# Altium footprint library Footprint.PcbLib: 97 footprints (part 4 of 7)
Each footprint in its own frame and in the unit in brackets; x right, y up, seen from the top. Pads: shape width x height; smd on the part's side, far side on the other; paste and mask are expansions set on the pad; w line width, h text height; cw(c..) or ccw(c..) is an arc to the next point about the centre after c.
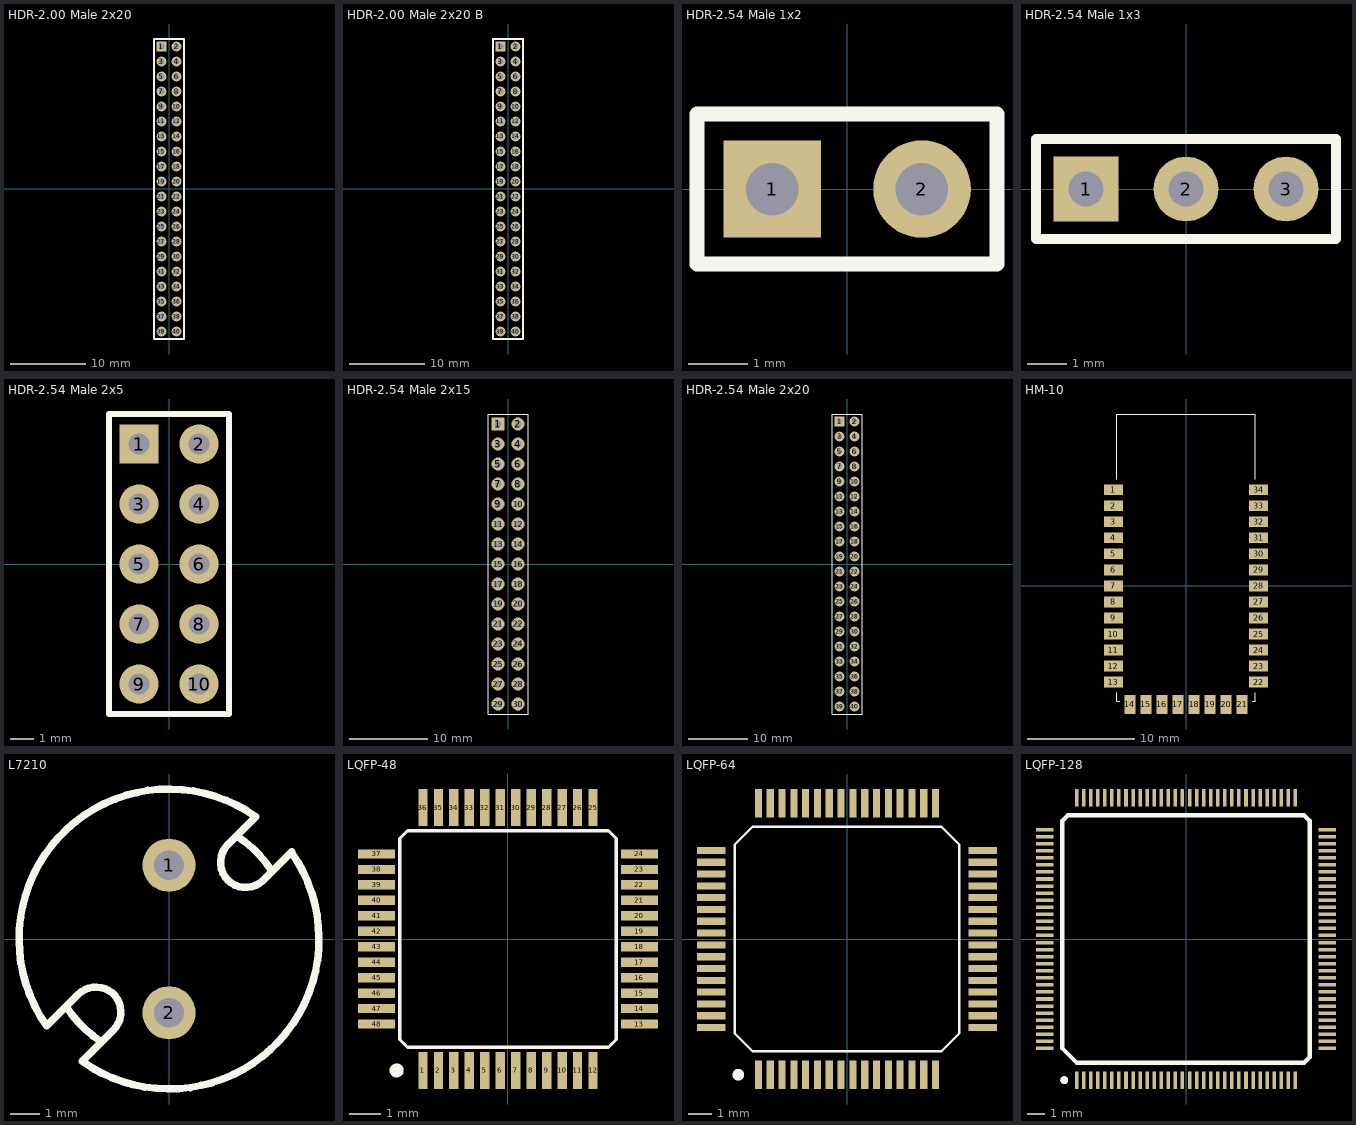
[diagram p3: the footprints below, top view; thin cyan lines are the x and y axes]

## HDR-2.00 Male 2x20 [mm]
pads (40):
  rect 1.3x1.3 hole 0.8: 1(-1,19)
  round 1.3 hole 0.8: 2(1,19) 3(-1,17) 4(1,17) 5(-1,15) 6(1,15) 7(-1,13) 8(1,13) 9(-1,11) 10(1,11) 11(-1,9) 12(1,9) 13(-1,7) 14(1,7) 15(-1,5) 16(1,5) 17(-1,3) 18(1,3) 19(-1,1) 20(1,1) 21(-1,-1) 22(1,-1) 23(-1,-3) 24(1,-3) 25(-1,-5) 26(1,-5) 27(-1,-7) 28(1,-7) 29(-1,-9) 30(1,-9) 31(-1,-11) 32(1,-11) 33(-1,-13) 34(1,-13) 35(-1,-15) 36(1,-15) 37(-1,-17) 38(1,-17) 39(-1,-19) 40(1,-19)
Top Overlay:
  lines w0.254: -2,-20 2,-20 2,-10 2,0 2,10 2,20 -2,20 -2,10 -2,0 -2,-10 -2,-20
3D body: height 2, standoff 0.25, extent -2,-20 2,-18
3D body: height 2, standoff 0.25, extent -2,-18 2,-16
3D body: height 2, standoff 0.25, extent -2,-16 2,-14
3D body: height 2, standoff 0.25, extent -2,-14 2,-12
3D body: height 2, standoff 0.25, extent -2,-12 2,-10
3D body: height 0.25, standoff 0, extent 1.5,-12 2,-10
3D body: height 0.25, standoff 0, extent 1.5,-14 2,-12
3D body: height 0.25, standoff 0, extent 1.5,-16 2,-14
3D body: height 0.25, standoff 0, extent 1.5,-18 2,-16
3D body: height 0.25, standoff 0, extent 1.5,-20 2,-18
3D body: height 0.25, standoff 0, extent -2,-20 -1.5,-18
3D body: height 0.25, standoff 0, extent -2,-18 -1.5,-16
3D body: height 0.25, standoff 0, extent -2,-16 -1.5,-14
3D body: height 0.25, standoff 0, extent -2,-14 -1.5,-12
3D body: height 0.25, standoff 0, extent -2,-12 -1.5,-10
3D body: height 0.25, standoff 0, extent 0,-20 0.5,-10
3D body: height 6, standoff -2.8, extent 0.75,-19.24 1.25,-18.74
3D body: height 6, standoff -2.8, extent -1.25,-19.24 -0.75,-18.74
3D body: height 6, standoff -2.8, extent 0.75,-17.24 1.25,-16.74
3D body: height 6, standoff -2.8, extent -1.25,-17.24 -0.75,-16.74
3D body: height 6, standoff -2.8, extent 0.75,-15.24 1.25,-14.74
3D body: height 6, standoff -2.8, extent -1.25,-15.24 -0.75,-14.74
3D body: height 6, standoff -2.8, extent -1.25,-11.24 -0.75,-10.74
3D body: height 6, standoff -2.8, extent -1.25,-13.24 -0.75,-12.74
3D body: height 0.25, standoff 0, extent -0.5,-20 0,-10
3D body: height 6, standoff -2.8, extent 0.75,-13.24 1.25,-12.74
3D body: height 6, standoff -2.8, extent 0.75,-11.24 1.25,-10.74
3D body: height 2, standoff 0.25, extent -2,-10 2,-8
3D body: height 2, standoff 0.25, extent -2,-8 2,-6
3D body: height 2, standoff 0.25, extent -2,-6 2,-4
3D body: height 2, standoff 0.25, extent -2,-4 2,-2
3D body: height 2, standoff 0.25, extent -2,-2 2,0
3D body: height 0.25, standoff 0, extent 1.5,-2 2,0
3D body: height 0.25, standoff 0, extent 1.5,-4 2,-2
3D body: height 0.25, standoff 0, extent 1.5,-6 2,-4
3D body: height 0.25, standoff 0, extent 1.5,-8 2,-6
3D body: height 0.25, standoff 0, extent 1.5,-10 2,-8
3D body: height 0.25, standoff 0, extent -2,-10 -1.5,-8
3D body: height 0.25, standoff 0, extent -2,-8 -1.5,-6
3D body: height 0.25, standoff 0, extent -2,-6 -1.5,-4
3D body: height 0.25, standoff 0, extent -2,-4 -1.5,-2
3D body: height 0.25, standoff 0, extent -2,-2 -1.5,0
3D body: height 0.25, standoff 0, extent 0,-10 0.5,0
3D body: height 6, standoff -2.8, extent 0.75,-9.24 1.25,-8.74
3D body: height 6, standoff -2.8, extent -1.25,-9.24 -0.75,-8.74
3D body: height 6, standoff -2.8, extent 0.75,-7.24 1.25,-6.74
3D body: height 6, standoff -2.8, extent -1.25,-7.24 -0.75,-6.74
3D body: height 6, standoff -2.8, extent 0.75,-5.24 1.25,-4.74
3D body: height 6, standoff -2.8, extent -1.25,-5.24 -0.75,-4.74
3D body: height 6, standoff -2.8, extent -1.25,-1.24 -0.75,-0.74
3D body: height 6, standoff -2.8, extent -1.25,-3.24 -0.75,-2.74
3D body: height 0.25, standoff 0, extent -0.5,-10 0,0
3D body: height 6, standoff -2.8, extent 0.75,-3.24 1.25,-2.74
3D body: height 6, standoff -2.8, extent 0.75,-1.24 1.25,-0.74
3D body: height 6, standoff -2.8, extent 0.75,18.76 1.25,19.26
3D body: height 6, standoff -2.8, extent 0.75,16.76 1.25,17.26
3D body: height 0.25, standoff 0, extent -0.5,10 0,20
3D body: height 6, standoff -2.8, extent -1.25,16.76 -0.75,17.26
3D body: height 6, standoff -2.8, extent -1.25,18.76 -0.75,19.26
3D body: height 6, standoff -2.8, extent -1.25,14.76 -0.75,15.26
3D body: height 6, standoff -2.8, extent 0.75,14.76 1.25,15.26
3D body: height 6, standoff -2.8, extent -1.25,12.76 -0.75,13.26
3D body: height 6, standoff -2.8, extent 0.75,12.76 1.25,13.26
3D body: height 6, standoff -2.8, extent -1.25,10.76 -0.75,11.26
3D body: height 6, standoff -2.8, extent 0.75,10.76 1.25,11.26
3D body: height 0.25, standoff 0, extent 0,10 0.5,20
3D body: height 0.25, standoff 0, extent -2,18 -1.5,20
3D body: height 0.25, standoff 0, extent -2,16 -1.5,18
3D body: height 0.25, standoff 0, extent -2,14 -1.5,16
3D body: height 0.25, standoff 0, extent -2,12 -1.5,14
3D body: height 0.25, standoff 0, extent -2,10 -1.5,12
3D body: height 0.25, standoff 0, extent 1.5,10 2,12
3D body: height 0.25, standoff 0, extent 1.5,12 2,14
3D body: height 0.25, standoff 0, extent 1.5,14 2,16
3D body: height 0.25, standoff 0, extent 1.5,16 2,18
3D body: height 0.25, standoff 0, extent 1.5,18 2,20
3D body: height 2, standoff 0.25, extent -2,18 2,20
3D body: height 2, standoff 0.25, extent -2,16 2,18
3D body: height 2, standoff 0.25, extent -2,14 2,16
3D body: height 2, standoff 0.25, extent -2,12 2,14
3D body: height 2, standoff 0.25, extent -2,10 2,12
3D body: height 6, standoff -2.8, extent 0.75,8.76 1.25,9.26
3D body: height 6, standoff -2.8, extent 0.75,6.76 1.25,7.26
3D body: height 0.25, standoff 0, extent -0.5,0 0,10
3D body: height 6, standoff -2.8, extent -1.25,6.76 -0.75,7.26
3D body: height 6, standoff -2.8, extent -1.25,8.76 -0.75,9.26
3D body: height 6, standoff -2.8, extent -1.25,4.76 -0.75,5.26
3D body: height 6, standoff -2.8, extent 0.75,4.76 1.25,5.26
3D body: height 6, standoff -2.8, extent -1.25,2.76 -0.75,3.26
3D body: height 6, standoff -2.8, extent 0.75,2.76 1.25,3.26
3D body: height 6, standoff -2.8, extent -1.25,0.76 -0.75,1.26
3D body: height 6, standoff -2.8, extent 0.75,0.76 1.25,1.26
3D body: height 0.25, standoff 0, extent 0,0 0.5,10
3D body: height 0.25, standoff 0, extent -2,8 -1.5,10
3D body: height 0.25, standoff 0, extent -2,6 -1.5,8
3D body: height 0.25, standoff 0, extent -2,4 -1.5,6
3D body: height 0.25, standoff 0, extent -2,2 -1.5,4
3D body: height 0.25, standoff 0, extent -2,0 -1.5,2
3D body: height 0.25, standoff 0, extent 1.5,0 2,2
3D body: height 0.25, standoff 0, extent 1.5,2 2,4
3D body: height 0.25, standoff 0, extent 1.5,4 2,6
3D body: height 0.25, standoff 0, extent 1.5,6 2,8
3D body: height 0.25, standoff 0, extent 1.5,8 2,10
3D body: height 2, standoff 0.25, extent -2,8 2,10
3D body: height 2, standoff 0.25, extent -2,6 2,8
3D body: height 2, standoff 0.25, extent -2,4 2,6
3D body: height 2, standoff 0.25, extent -2,2 2,4
3D body: height 2, standoff 0.25, extent -2,0 2,2

## HDR-2.00 Male 2x20 B [mm]
pads (40):
  rect 1.3x1.3 hole 0.8: 1(-1,19)
  round 1.3 hole 0.8: 2(1,19) 3(-1,17) 4(1,17) 5(-1,15) 6(1,15) 7(-1,13) 8(1,13) 9(-1,11) 10(1,11) 11(-1,9) 12(1,9) 13(-1,7) 14(1,7) 15(-1,5) 16(1,5) 17(-1,3) 18(1,3) 19(-1,1) 20(1,1) 21(-1,-1) 22(1,-1) 23(-1,-3) 24(1,-3) 25(-1,-5) 26(1,-5) 27(-1,-7) 28(1,-7) 29(-1,-9) 30(1,-9) 31(-1,-11) 32(1,-11) 33(-1,-13) 34(1,-13) 35(-1,-15) 36(1,-15) 37(-1,-17) 38(1,-17) 39(-1,-19) 40(1,-19)
Top Overlay:
  lines w0.254: -2,-20 2,-20 2,-10 2,0 2,10 2,20 -2,20 -2,10 -2,0 -2,-10 -2,-20
3D body: height 2, standoff 0.25, extent -2,-20 2,-18
3D body: height 2, standoff 0.25, extent -2,-18 2,-16
3D body: height 2, standoff 0.25, extent -2,-16 2,-14
3D body: height 2, standoff 0.25, extent -2,-14 2,-12
3D body: height 2, standoff 0.25, extent -2,-12 2,-10
3D body: height 0.25, standoff 0, extent 1.5,-12 2,-10
3D body: height 0.25, standoff 0, extent 1.5,-14 2,-12
3D body: height 0.25, standoff 0, extent 1.5,-16 2,-14
3D body: height 0.25, standoff 0, extent 1.5,-18 2,-16
3D body: height 0.25, standoff 0, extent 1.5,-20 2,-18
3D body: height 0.25, standoff 0, extent -2,-20 -1.5,-18
3D body: height 0.25, standoff 0, extent -2,-18 -1.5,-16
3D body: height 0.25, standoff 0, extent -2,-16 -1.5,-14
3D body: height 0.25, standoff 0, extent -2,-14 -1.5,-12
3D body: height 0.25, standoff 0, extent -2,-12 -1.5,-10
3D body: height 0.25, standoff 0, extent 0,-20 0.5,-10
3D body: height 6, standoff -2.8, extent 0.75,-19.24 1.25,-18.74
3D body: height 6, standoff -2.8, extent -1.25,-19.24 -0.75,-18.74
3D body: height 6, standoff -2.8, extent 0.75,-17.24 1.25,-16.74
3D body: height 6, standoff -2.8, extent -1.25,-17.24 -0.75,-16.74
3D body: height 6, standoff -2.8, extent 0.75,-15.24 1.25,-14.74
3D body: height 6, standoff -2.8, extent -1.25,-15.24 -0.75,-14.74
3D body: height 6, standoff -2.8, extent -1.25,-11.24 -0.75,-10.74
3D body: height 6, standoff -2.8, extent -1.25,-13.24 -0.75,-12.74
3D body: height 0.25, standoff 0, extent -0.5,-20 0,-10
3D body: height 6, standoff -2.8, extent 0.75,-13.24 1.25,-12.74
3D body: height 6, standoff -2.8, extent 0.75,-11.24 1.25,-10.74
3D body: height 2, standoff 0.25, extent -2,-10 2,-8
3D body: height 2, standoff 0.25, extent -2,-8 2,-6
3D body: height 2, standoff 0.25, extent -2,-6 2,-4
3D body: height 2, standoff 0.25, extent -2,-4 2,-2
3D body: height 2, standoff 0.25, extent -2,-2 2,0
3D body: height 0.25, standoff 0, extent 1.5,-2 2,0
3D body: height 0.25, standoff 0, extent 1.5,-4 2,-2
3D body: height 0.25, standoff 0, extent 1.5,-6 2,-4
3D body: height 0.25, standoff 0, extent 1.5,-8 2,-6
3D body: height 0.25, standoff 0, extent 1.5,-10 2,-8
3D body: height 0.25, standoff 0, extent -2,-10 -1.5,-8
3D body: height 0.25, standoff 0, extent -2,-8 -1.5,-6
3D body: height 0.25, standoff 0, extent -2,-6 -1.5,-4
3D body: height 0.25, standoff 0, extent -2,-4 -1.5,-2
3D body: height 0.25, standoff 0, extent -2,-2 -1.5,0
3D body: height 0.25, standoff 0, extent 0,-10 0.5,0
3D body: height 6, standoff -2.8, extent 0.75,-9.24 1.25,-8.74
3D body: height 6, standoff -2.8, extent -1.25,-9.24 -0.75,-8.74
3D body: height 6, standoff -2.8, extent 0.75,-7.24 1.25,-6.74
3D body: height 6, standoff -2.8, extent -1.25,-7.24 -0.75,-6.74
3D body: height 6, standoff -2.8, extent 0.75,-5.24 1.25,-4.74
3D body: height 6, standoff -2.8, extent -1.25,-5.24 -0.75,-4.74
3D body: height 6, standoff -2.8, extent -1.25,-1.24 -0.75,-0.74
3D body: height 6, standoff -2.8, extent -1.25,-3.24 -0.75,-2.74
3D body: height 0.25, standoff 0, extent -0.5,-10 0,0
3D body: height 6, standoff -2.8, extent 0.75,-3.24 1.25,-2.74
3D body: height 6, standoff -2.8, extent 0.75,-1.24 1.25,-0.74
3D body: height 6, standoff -2.8, extent 0.75,18.76 1.25,19.26
3D body: height 6, standoff -2.8, extent 0.75,16.76 1.25,17.26
3D body: height 0.25, standoff 0, extent -0.5,10 0,20
3D body: height 6, standoff -2.8, extent -1.25,16.76 -0.75,17.26
3D body: height 6, standoff -2.8, extent -1.25,18.76 -0.75,19.26
3D body: height 6, standoff -2.8, extent -1.25,14.76 -0.75,15.26
3D body: height 6, standoff -2.8, extent 0.75,14.76 1.25,15.26
3D body: height 6, standoff -2.8, extent -1.25,12.76 -0.75,13.26
3D body: height 6, standoff -2.8, extent 0.75,12.76 1.25,13.26
3D body: height 6, standoff -2.8, extent -1.25,10.76 -0.75,11.26
3D body: height 6, standoff -2.8, extent 0.75,10.76 1.25,11.26
3D body: height 0.25, standoff 0, extent 0,10 0.5,20
3D body: height 0.25, standoff 0, extent -2,18 -1.5,20
3D body: height 0.25, standoff 0, extent -2,16 -1.5,18
3D body: height 0.25, standoff 0, extent -2,14 -1.5,16
3D body: height 0.25, standoff 0, extent -2,12 -1.5,14
3D body: height 0.25, standoff 0, extent -2,10 -1.5,12
3D body: height 0.25, standoff 0, extent 1.5,10 2,12
3D body: height 0.25, standoff 0, extent 1.5,12 2,14
3D body: height 0.25, standoff 0, extent 1.5,14 2,16
3D body: height 0.25, standoff 0, extent 1.5,16 2,18
3D body: height 0.25, standoff 0, extent 1.5,18 2,20
3D body: height 2, standoff 0.25, extent -2,18 2,20
3D body: height 2, standoff 0.25, extent -2,16 2,18
3D body: height 2, standoff 0.25, extent -2,14 2,16
3D body: height 2, standoff 0.25, extent -2,12 2,14
3D body: height 2, standoff 0.25, extent -2,10 2,12
3D body: height 6, standoff -2.8, extent 0.75,8.76 1.25,9.26
3D body: height 6, standoff -2.8, extent 0.75,6.76 1.25,7.26
3D body: height 0.25, standoff 0, extent -0.5,0 0,10
3D body: height 6, standoff -2.8, extent -1.25,6.76 -0.75,7.26
3D body: height 6, standoff -2.8, extent -1.25,8.76 -0.75,9.26
3D body: height 6, standoff -2.8, extent -1.25,4.76 -0.75,5.26
3D body: height 6, standoff -2.8, extent 0.75,4.76 1.25,5.26
3D body: height 6, standoff -2.8, extent -1.25,2.76 -0.75,3.26
3D body: height 6, standoff -2.8, extent 0.75,2.76 1.25,3.26
3D body: height 6, standoff -2.8, extent -1.25,0.76 -0.75,1.26
3D body: height 6, standoff -2.8, extent 0.75,0.76 1.25,1.26
3D body: height 0.25, standoff 0, extent 0,0 0.5,10
3D body: height 0.25, standoff 0, extent -2,8 -1.5,10
3D body: height 0.25, standoff 0, extent -2,6 -1.5,8
3D body: height 0.25, standoff 0, extent -2,4 -1.5,6
3D body: height 0.25, standoff 0, extent -2,2 -1.5,4
3D body: height 0.25, standoff 0, extent -2,0 -1.5,2
3D body: height 0.25, standoff 0, extent 1.5,0 2,2
3D body: height 0.25, standoff 0, extent 1.5,2 2,4
3D body: height 0.25, standoff 0, extent 1.5,4 2,6
3D body: height 0.25, standoff 0, extent 1.5,6 2,8
3D body: height 0.25, standoff 0, extent 1.5,8 2,10
3D body: height 2, standoff 0.25, extent -2,8 2,10
3D body: height 2, standoff 0.25, extent -2,6 2,8
3D body: height 2, standoff 0.25, extent -2,4 2,6
3D body: height 2, standoff 0.25, extent -2,2 2,4
3D body: height 2, standoff 0.25, extent -2,0 2,2

## HDR-2.54 Male 1x2 [mil]
pads (2):
  rect 65x65 hole 35: 1(-50,0)
  round 65 hole 35: 2(50,0)
Top Overlay:
  lines w10: -100,-50 -100,50 100,50 100,-50 -100,-50

## HDR-2.54 Male 1x3 [mil]
pads (3):
  rect 65x65 hole 35: 1(-100,0)
  round 65 hole 35: 2(0,0) 3(100,0)
Top Overlay:
  lines w10: -150,-50 -150,50 150,50 150,-50 -150,-50

## HDR-2.54 Male 2x5 [mil]
pads (10):
  rect 65x65 hole 35: 1(-50,200)
  round 65 hole 35: 2(50,200) 3(-50,100) 4(50,100) 5(-50,0) 6(50,0) 7(-50,-100) 8(50,-100) 9(-50,-200) 10(50,-200)
Top Overlay:
  lines w10: -100,-250 -100,250 100,250 100,-250 -100,-250
3D body: height 19.68, standoff 0, extent -100,150 -78.74,250
3D body: height 19.68, standoff 0, extent 78.74,150 100,250
3D body: height 98.43, standoff 19.68, extent -100,150 100,200
3D body: height 98.43, standoff 19.68, extent -100,200 100,250
3D body: height 336.22, standoff -118.11, extent 37.4,187.4 62.6,212.6
3D body: height 336.22, standoff -118.11, extent -62.6,187.4 -37.4,212.6
3D body: height 19.68, standoff 0, extent -100,50 -78.74,150
3D body: height 19.68, standoff 0, extent 78.74,50 100,150
3D body: height 98.43, standoff 19.68, extent -100,50 100,100
3D body: height 98.43, standoff 19.68, extent -100,100 100,150
3D body: height 336.22, standoff -118.11, extent 37.4,87.4 62.6,112.6
3D body: height 336.22, standoff -118.11, extent -62.6,87.4 -37.4,112.6
3D body: height 19.68, standoff 0, extent -100,-50 -78.74,50
3D body: height 19.68, standoff 0, extent 78.74,-50 100,50
3D body: height 98.43, standoff 19.68, extent -100,-50 100,0
3D body: height 98.43, standoff 19.68, extent -100,0 100,50
3D body: height 336.22, standoff -118.11, extent 37.4,-12.6 62.6,12.6
3D body: height 336.22, standoff -118.11, extent -62.6,-12.6 -37.4,12.6
3D body: height 19.68, standoff 0, extent -100,-150 -78.74,-50
3D body: height 19.68, standoff 0, extent 78.74,-150 100,-50
3D body: height 98.43, standoff 19.68, extent -100,-150 100,-100
3D body: height 98.43, standoff 19.68, extent -100,-100 100,-50
3D body: height 336.22, standoff -118.11, extent 37.4,-112.6 62.6,-87.4
3D body: height 336.22, standoff -118.11, extent -62.6,-112.6 -37.4,-87.4
3D body: height 19.68, standoff 0, extent -100,-250 -78.74,-150
3D body: height 19.68, standoff 0, extent 78.74,-250 100,-150
3D body: height 98.43, standoff 19.68, extent -100,-250 100,-200
3D body: height 98.43, standoff 19.68, extent -100,-200 100,-150
3D body: height 336.22, standoff -118.11, extent 37.4,-212.6 62.6,-187.4
3D body: height 336.22, standoff -118.11, extent -62.6,-212.6 -37.4,-187.4

## HDR-2.54 Male 2x15 [mil]
pads (30):
  rect 65x65 hole 35: 1(-50,700)
  round 65 hole 35: 2(50,700) 3(-50,600) 4(50,600) 5(-50,500) 6(50,500) 7(-50,400) 8(50,400) 9(-50,300) 10(50,300) 11(-50,200) 12(50,200) 13(-50,100) 14(50,100) 15(-50,0) 16(50,0) 17(-50,-100) 18(50,-100) 19(-50,-200) 20(50,-200) 21(-50,-300) 22(50,-300) 23(-50,-400) 24(50,-400) 25(-50,-500) 26(50,-500) 27(-50,-600) 28(50,-600) 29(-50,-700) 30(50,-700)
Top Overlay:
  lines w5: -100,-750 100,-750 100,750 -100,750 -100,-750
3D body: height 98.43, standoff 19.68, extent -100,700 100,750
3D body: height 98.43, standoff 19.68, extent -100,650 100,700
3D body: height 19.68, standoff 0, extent -100,650 -78.74,750
3D body: height 19.68, standoff 0, extent 78.74,650 100,750
3D body: height 19.68, standoff 0, extent -100,550 -78.74,650
3D body: height 19.68, standoff 0, extent -100,450 -78.74,550
3D body: height 19.68, standoff 0, extent -100,350 -78.74,450
3D body: height 19.68, standoff 0, extent -100,250 -78.74,350
3D body: height 19.68, standoff 0, extent -100,-150 -78.74,-50
3D body: height 19.68, standoff 0, extent -100,-50 -78.74,50
3D body: height 19.68, standoff 0, extent -100,50 -78.74,150
3D body: height 19.68, standoff 0, extent -100,150 -78.74,250
3D body: height 19.68, standoff 0, extent -100,-550 -78.74,-450
3D body: height 19.68, standoff 0, extent -100,-450 -78.74,-350
3D body: height 19.68, standoff 0, extent -100,-350 -78.74,-250
3D body: height 19.68, standoff 0, extent -100,-250 -78.74,-150
3D body: height 19.68, standoff 0, extent -100,-750 -78.74,-650
3D body: height 19.68, standoff 0, extent -100,-650 -78.74,-550
3D body: height 19.68, standoff 0, extent 78.74,550 100,650
3D body: height 19.68, standoff 0, extent 78.74,450 100,550
3D body: height 19.68, standoff 0, extent 78.74,350 100,450
3D body: height 19.68, standoff 0, extent 78.74,250 100,350
3D body: height 19.68, standoff 0, extent 78.74,150 100,250
3D body: height 19.68, standoff 0, extent 78.74,50 100,150
3D body: height 19.68, standoff 0, extent 78.74,-50 100,50
3D body: height 19.68, standoff 0, extent 78.74,-150 100,-50
3D body: height 19.68, standoff 0, extent 78.74,-250 100,-150
3D body: height 19.68, standoff 0, extent 78.74,-350 100,-250
3D body: height 19.68, standoff 0, extent 78.74,-450 100,-350
3D body: height 19.68, standoff 0, extent 78.74,-550 100,-450
3D body: height 19.68, standoff 0, extent 78.74,-650 100,-550
3D body: height 19.68, standoff 0, extent 78.74,-750 100,-650
3D body: height 98.43, standoff 19.68, extent -100,550 100,600
3D body: height 98.43, standoff 19.68, extent -100,600 100,650
3D body: height 98.43, standoff 19.68, extent -100,400 100,450
3D body: height 98.43, standoff 19.68, extent -100,450 100,500
3D body: height 98.43, standoff 19.68, extent -100,300 100,350
3D body: height 98.43, standoff 19.68, extent -100,350 100,400
3D body: height 98.43, standoff 19.68, extent -100,200 100,250
3D body: height 98.43, standoff 19.68, extent -100,250 100,300
3D body: height 98.43, standoff 19.68, extent -100,100 100,150
3D body: height 98.43, standoff 19.68, extent -100,150 100,200
3D body: height 98.43, standoff 19.68, extent -100,0 100,50
3D body: height 98.43, standoff 19.68, extent -100,50 100,100
3D body: height 98.43, standoff 19.68, extent -100,-100 100,-50
3D body: height 98.43, standoff 19.68, extent -100,-50 100,0
3D body: height 98.43, standoff 19.68, extent -100,-200 100,-150
3D body: height 98.43, standoff 19.68, extent -100,-150 100,-100
3D body: height 98.43, standoff 19.68, extent -100,-300 100,-250
3D body: height 98.43, standoff 19.68, extent -100,-250 100,-200
3D body: height 98.43, standoff 19.68, extent -100,-400 100,-350
3D body: height 98.43, standoff 19.68, extent -100,-350 100,-300
3D body: height 98.43, standoff 19.68, extent -100,-500 100,-450
3D body: height 98.43, standoff 19.68, extent -100,-450 100,-400
3D body: height 98.43, standoff 19.68, extent -100,-600 100,-550
3D body: height 98.43, standoff 19.68, extent -100,-550 100,-500
3D body: height 98.43, standoff 19.68, extent -100,-700 100,-650
3D body: height 98.43, standoff 19.68, extent -100,-650 100,-600
3D body: height 98.43, standoff 19.68, extent -100,-750 100,-700
3D body: height 98.43, standoff 19.68, extent -100,500 100,550
3D body: height 336.22, standoff -118.11, extent -62.6,687.4 -37.4,712.6
3D body: height 336.22, standoff -118.11, extent 37.4,687.4 62.6,712.6
3D body: height 336.22, standoff -118.11, extent 37.4,587.4 62.6,612.6
3D body: height 336.22, standoff -118.11, extent -62.6,587.4 -37.4,612.6
3D body: height 336.22, standoff -118.11, extent 37.4,487.4 62.6,512.6
3D body: height 336.22, standoff -118.11, extent -62.6,487.4 -37.4,512.6
3D body: height 336.22, standoff -118.11, extent 37.4,387.4 62.6,412.6
3D body: height 336.22, standoff -118.11, extent -62.6,387.4 -37.4,412.6
3D body: height 336.22, standoff -118.11, extent 37.4,287.4 62.6,312.6
3D body: height 336.22, standoff -118.11, extent -62.6,287.4 -37.4,312.6
3D body: height 336.22, standoff -118.11, extent 37.4,187.4 62.6,212.6
3D body: height 336.22, standoff -118.11, extent -62.6,187.4 -37.4,212.6
3D body: height 336.22, standoff -118.11, extent 37.4,87.4 62.6,112.6
3D body: height 336.22, standoff -118.11, extent -62.6,87.4 -37.4,112.6
3D body: height 336.22, standoff -118.11, extent 37.4,-12.6 62.6,12.6
3D body: height 336.22, standoff -118.11, extent -62.6,-12.6 -37.4,12.6
3D body: height 336.22, standoff -118.11, extent 37.4,-112.6 62.6,-87.4
3D body: height 336.22, standoff -118.11, extent -62.6,-112.6 -37.4,-87.4
3D body: height 336.22, standoff -118.11, extent 37.4,-212.6 62.6,-187.4
3D body: height 336.22, standoff -118.11, extent -62.6,-212.6 -37.4,-187.4
3D body: height 336.22, standoff -118.11, extent 37.4,-312.6 62.6,-287.4
3D body: height 336.22, standoff -118.11, extent -62.6,-312.6 -37.4,-287.4
3D body: height 336.22, standoff -118.11, extent 37.4,-412.6 62.6,-387.4
3D body: height 336.22, standoff -118.11, extent -62.6,-412.6 -37.4,-387.4
3D body: height 336.22, standoff -118.11, extent 37.4,-512.6 62.6,-487.4
3D body: height 336.22, standoff -118.11, extent -62.6,-512.6 -37.4,-487.4
3D body: height 336.22, standoff -118.11, extent 37.4,-612.6 62.6,-587.4
3D body: height 336.22, standoff -118.11, extent -62.6,-612.6 -37.4,-587.4
3D body: height 336.22, standoff -118.11, extent 37.4,-712.6 62.6,-687.4
3D body: height 336.22, standoff -118.11, extent -62.6,-712.6 -37.4,-687.4

## HDR-2.54 Male 2x20 [mil]
pads (40):
  rect 65x65 hole 35: 1(-50,950)
  round 65 hole 35: 2(50,950) 3(-50,850) 4(50,850) 5(-50,750) 6(50,750) 7(-50,650) 8(50,650) 9(-50,550) 10(50,550) 11(-50,450) 12(50,450) 13(-50,350) 14(50,350) 15(-50,250) 16(50,250) 17(-50,150) 18(50,150) 19(-50,50) 20(50,50) 21(-50,-50) 22(50,-50) 23(-50,-150) 24(50,-150) 25(-50,-250) 26(50,-250) 27(-50,-350) 28(50,-350) 29(-50,-450) 30(50,-450) 31(-50,-550) 32(50,-550) 33(-50,-650) 34(50,-650) 35(-50,-750) 36(50,-750) 37(-50,-850) 38(50,-850) 39(-50,-950) 40(50,-950)
Top Overlay:
  lines w5: -100,-1000 -100,1000 100,1000 100,-1000 -100,-1000
3D body: height 336.22, standoff -118.11, extent -62.6,-962.6 -37.4,-937.4
3D body: height 336.22, standoff -118.11, extent 37.4,-962.6 62.6,-937.4
3D body: height 336.22, standoff -118.11, extent -62.6,-862.6 -37.4,-837.4
3D body: height 336.22, standoff -118.11, extent 37.4,-862.6 62.6,-837.4
3D body: height 336.22, standoff -118.11, extent -62.6,-762.6 -37.4,-737.4
3D body: height 336.22, standoff -118.11, extent 37.4,-762.6 62.6,-737.4
3D body: height 336.22, standoff -118.11, extent -62.6,-662.6 -37.4,-637.4
3D body: height 336.22, standoff -118.11, extent 37.4,-662.6 62.6,-637.4
3D body: height 336.22, standoff -118.11, extent -62.6,-562.6 -37.4,-537.4
3D body: height 336.22, standoff -118.11, extent 37.4,-562.6 62.6,-537.4
3D body: height 336.22, standoff -118.11, extent -62.6,-462.6 -37.4,-437.4
3D body: height 336.22, standoff -118.11, extent 37.4,-462.6 62.6,-437.4
3D body: height 336.22, standoff -118.11, extent -62.6,-362.6 -37.4,-337.4
3D body: height 336.22, standoff -118.11, extent 37.4,-362.6 62.6,-337.4
3D body: height 336.22, standoff -118.11, extent -62.6,-262.6 -37.4,-237.4
3D body: height 336.22, standoff -118.11, extent 37.4,-262.6 62.6,-237.4
3D body: height 336.22, standoff -118.11, extent -62.6,-162.6 -37.4,-137.4
3D body: height 336.22, standoff -118.11, extent 37.4,-162.6 62.6,-137.4
3D body: height 336.22, standoff -118.11, extent -62.6,-62.6 -37.4,-37.4
3D body: height 336.22, standoff -118.11, extent 37.4,-62.6 62.6,-37.4
3D body: height 336.22, standoff -118.11, extent -62.6,37.4 -37.4,62.6
3D body: height 336.22, standoff -118.11, extent 37.4,37.4 62.6,62.6
3D body: height 336.22, standoff -118.11, extent -62.6,137.4 -37.4,162.6
3D body: height 336.22, standoff -118.11, extent 37.4,137.4 62.6,162.6
3D body: height 336.22, standoff -118.11, extent -62.6,237.4 -37.4,262.6
3D body: height 336.22, standoff -118.11, extent 37.4,237.4 62.6,262.6
3D body: height 336.22, standoff -118.11, extent -62.6,337.4 -37.4,362.6
3D body: height 336.22, standoff -118.11, extent 37.4,337.4 62.6,362.6
3D body: height 336.22, standoff -118.11, extent -62.6,437.4 -37.4,462.6
3D body: height 336.22, standoff -118.11, extent 37.4,437.4 62.6,462.6
3D body: height 336.22, standoff -118.11, extent -62.6,537.4 -37.4,562.6
3D body: height 336.22, standoff -118.11, extent 37.4,537.4 62.6,562.6
3D body: height 336.22, standoff -118.11, extent -62.6,637.4 -37.4,662.6
3D body: height 336.22, standoff -118.11, extent 37.4,637.4 62.6,662.6
3D body: height 336.22, standoff -118.11, extent -62.6,737.4 -37.4,762.6
3D body: height 336.22, standoff -118.11, extent 37.4,737.4 62.6,762.6
3D body: height 336.22, standoff -118.11, extent -62.6,837.4 -37.4,862.6
3D body: height 336.22, standoff -118.11, extent 37.4,837.4 62.6,862.6
3D body: height 336.22, standoff -118.11, extent 37.4,937.4 62.6,962.6
3D body: height 336.22, standoff -118.11, extent -62.6,937.4 -37.4,962.6
3D body: height 98.43, standoff 19.68, extent -100,750 100,800
3D body: height 98.43, standoff 19.68, extent -100,-1000 100,-950
3D body: height 98.43, standoff 19.68, extent -100,-900 100,-850
3D body: height 98.43, standoff 19.68, extent -100,-950 100,-900
3D body: height 98.43, standoff 19.68, extent -100,-800 100,-750
3D body: height 98.43, standoff 19.68, extent -100,-850 100,-800
3D body: height 98.43, standoff 19.68, extent -100,-700 100,-650
3D body: height 98.43, standoff 19.68, extent -100,-750 100,-700
3D body: height 98.43, standoff 19.68, extent -100,-600 100,-550
3D body: height 98.43, standoff 19.68, extent -100,-650 100,-600
3D body: height 98.43, standoff 19.68, extent -100,-500 100,-450
3D body: height 98.43, standoff 19.68, extent -100,-550 100,-500
3D body: height 98.43, standoff 19.68, extent -100,-400 100,-350
3D body: height 98.43, standoff 19.68, extent -100,-450 100,-400
3D body: height 98.43, standoff 19.68, extent -100,-300 100,-250
3D body: height 98.43, standoff 19.68, extent -100,-350 100,-300
3D body: height 98.43, standoff 19.68, extent -100,-200 100,-150
3D body: height 98.43, standoff 19.68, extent -100,-250 100,-200
3D body: height 98.43, standoff 19.68, extent -100,-100 100,-50
3D body: height 98.43, standoff 19.68, extent -100,-150 100,-100
3D body: height 98.43, standoff 19.68, extent -100,0 100,50
3D body: height 98.43, standoff 19.68, extent -100,-50 100,0
3D body: height 98.43, standoff 19.68, extent -100,100 100,150
3D body: height 98.43, standoff 19.68, extent -100,50 100,100
3D body: height 98.43, standoff 19.68, extent -100,200 100,250
3D body: height 98.43, standoff 19.68, extent -100,150 100,200
3D body: height 98.43, standoff 19.68, extent -100,300 100,350
3D body: height 98.43, standoff 19.68, extent -100,250 100,300
3D body: height 98.43, standoff 19.68, extent -100,400 100,450
3D body: height 98.43, standoff 19.68, extent -100,350 100,400
3D body: height 98.43, standoff 19.68, extent -100,500 100,550
3D body: height 98.43, standoff 19.68, extent -100,450 100,500
3D body: height 98.43, standoff 19.68, extent -100,600 100,650
3D body: height 98.43, standoff 19.68, extent -100,550 100,600
3D body: height 98.43, standoff 19.68, extent -100,700 100,750
3D body: height 98.43, standoff 19.68, extent -100,650 100,700
3D body: height 98.43, standoff 19.68, extent -100,850 100,900
3D body: height 98.43, standoff 19.68, extent -100,800 100,850
3D body: height 19.68, standoff 0, extent 78.74,-800 100,-700
3D body: height 19.68, standoff 0, extent 78.74,-900 100,-800
3D body: height 19.68, standoff 0, extent 78.74,-1000 100,-900
3D body: height 19.68, standoff 0, extent 78.74,-700 100,-600
3D body: height 19.68, standoff 0, extent 78.74,-600 100,-500
3D body: height 19.68, standoff 0, extent 78.74,-500 100,-400
3D body: height 19.68, standoff 0, extent 78.74,-400 100,-300
3D body: height 19.68, standoff 0, extent 78.74,-300 100,-200
3D body: height 19.68, standoff 0, extent 78.74,-200 100,-100
3D body: height 19.68, standoff 0, extent 78.74,-100 100,0
3D body: height 19.68, standoff 0, extent 78.74,0 100,100
3D body: height 19.68, standoff 0, extent 78.74,100 100,200
3D body: height 19.68, standoff 0, extent 78.74,200 100,300
3D body: height 19.68, standoff 0, extent 78.74,300 100,400
3D body: height 19.68, standoff 0, extent 78.74,400 100,500
3D body: height 19.68, standoff 0, extent 78.74,500 100,600
3D body: height 19.68, standoff 0, extent 78.74,600 100,700
3D body: height 19.68, standoff 0, extent 78.74,700 100,800
3D body: height 19.68, standoff 0, extent 78.74,800 100,900
3D body: height 19.68, standoff 0, extent -100,-800 -78.74,-700
3D body: height 19.68, standoff 0, extent -100,-900 -78.74,-800
3D body: height 19.68, standoff 0, extent -100,-1000 -78.74,-900
3D body: height 19.68, standoff 0, extent -100,-400 -78.74,-300
3D body: height 19.68, standoff 0, extent -100,-500 -78.74,-400
3D body: height 19.68, standoff 0, extent -100,-600 -78.74,-500
3D body: height 19.68, standoff 0, extent -100,-700 -78.74,-600
3D body: height 19.68, standoff 0, extent -100,0 -78.74,100
3D body: height 19.68, standoff 0, extent -100,-100 -78.74,0
3D body: height 19.68, standoff 0, extent -100,-200 -78.74,-100
3D body: height 19.68, standoff 0, extent -100,-300 -78.74,-200
3D body: height 19.68, standoff 0, extent -100,400 -78.74,500
3D body: height 19.68, standoff 0, extent -100,300 -78.74,400
3D body: height 19.68, standoff 0, extent -100,200 -78.74,300
3D body: height 19.68, standoff 0, extent -100,100 -78.74,200
3D body: height 19.68, standoff 0, extent -100,500 -78.74,600
3D body: height 19.68, standoff 0, extent -100,600 -78.74,700
3D body: height 19.68, standoff 0, extent -100,700 -78.74,800
3D body: height 19.68, standoff 0, extent -100,800 -78.74,900
3D body: height 19.68, standoff 0, extent 78.74,900 100,1000
3D body: height 19.68, standoff 0, extent -100,900 -78.74,1000
3D body: height 98.43, standoff 19.68, extent -100,900 100,950
3D body: height 98.43, standoff 19.68, extent -100,950 100,1000

## HM-10 [mm]
pads (34):
  rect 1.8x1 smd: 1(-6.8,9) 2(-6.8,7.5) 3(-6.8,6) 4(-6.8,4.5) 5(-6.8,3) 6(-6.8,1.5) 7(-6.8,0) 8(-6.8,-1.5) 9(-6.8,-3) 10(-6.8,-4.5) 11(-6.8,-6) 12(-6.8,-7.5) 13(-6.8,-9) 22(6.8,-9) 23(6.8,-7.5) 24(6.8,-6) 25(6.8,-4.5) 26(6.8,-3) 27(6.8,-1.5) 28(6.8,0) 29(6.8,1.5) 30(6.8,3) 31(6.8,4.5) 32(6.8,6) 33(6.8,7.5) 34(6.8,9)
  rect 1x1.8 smd: 14(-5.25,-11.09) 15(-3.75,-11.09) 16(-2.25,-11.09) 17(-0.75,-11.09) 18(0.75,-11.09) 19(2.25,-11.09) 20(3.75,-11.09) 21(5.25,-11.09)
Top Overlay:
  lines w0.1: -6.5,-10 -6.5,-10.79 -6.2,-10.79 ; -6.5,10 -6.5,16.1 6.5,16.1 6.5,10 ; 6.2,-10.79 6.5,-10.79 6.5,-10

## L7210 [mm]
pads (2):
  round 1.8 hole 1: 1(0,2.5) 2(0,-2.5)
Top Overlay:
  lines w0.254: -4.144,-2.938 cw(c0,0) 2.942,4.141 ; -4.141,-2.941 -3.076,-1.876 ; -3.488,-2.287 ccw(c0,0) -2.287,-3.489 ; -2.943,-4.143 -1.876,-3.076 ; -2.942,-4.142 ccw(c0,0) 4.141,2.943 ; 2.294,3.491 cw(c0,0) 3.49,2.295 ; 2.943,4.143 1.97,3.17 ccw(c2.594,2.594) 3.17,1.97 4.15,2.95 ; -3.076,-1.875 cw(c-2.476,-2.476) -1.875,-3.076 ; -3.076,-1.876 -3.076,-1.875 ; -1.876,-3.076 -1.875,-3.076

## LQFP-48 [mm]
pads (48):
  rect 0.3x1.2 smd: 1(-2.75,-4.25) 2(-2.25,-4.25) 3(-1.75,-4.25) 4(-1.25,-4.25) 5(-0.75,-4.25) 6(-0.25,-4.25) 7(0.25,-4.25) 8(0.75,-4.25) 9(1.25,-4.25) 10(1.75,-4.25) 11(2.25,-4.25) 12(2.75,-4.25) 25(2.75,4.25) 26(2.25,4.25) 27(1.75,4.25) 28(1.25,4.25) 29(0.75,4.25) 30(0.25,4.25) 31(-0.25,4.25) 32(-0.75,4.25) 33(-1.25,4.25) 34(-1.75,4.25) 35(-2.25,4.25) 36(-2.75,4.25)
  rect 1.2x0.3 smd: 13(4.25,-2.75) 14(4.25,-2.25) 15(4.25,-1.75) 16(4.25,-1.25) 17(4.25,-0.75) 18(4.25,-0.25) 19(4.25,0.25) 20(4.25,0.75) 21(4.25,1.25) 22(4.25,1.75) 23(4.25,2.25) 24(4.25,2.75) 37(-4.25,2.75) 38(-4.25,2.25) 39(-4.25,1.75) 40(-4.25,1.25) 41(-4.25,0.75) 42(-4.25,0.25) 43(-4.25,-0.25) 44(-4.25,-0.75) 45(-4.25,-1.25) 46(-4.25,-1.75) 47(-4.25,-2.25) 48(-4.25,-2.75)
Top Overlay:
  circle w0.254: c-3.6,-4.25 r0.1
  lines w0.1: -3.5,-3.25 -3.25,-3.5 3.25,-3.5 3.5,-3.25 3.5,3.25 3.25,3.5 -3.25,3.5 -3.5,3.25 -3.5,-3.25

## LQFP-64 [mm]
pads (64):
  rect 0.3x1.2 smd: 1(-3.75,-5.75) 2(-3.25,-5.75) 3(-2.75,-5.75) 4(-2.25,-5.75) 5(-1.75,-5.75) 6(-1.25,-5.75) 7(-0.75,-5.75) 8(-0.25,-5.75) 9(0.25,-5.75) 10(0.75,-5.75) 11(1.25,-5.75) 12(1.75,-5.75) 13(2.25,-5.75) 14(2.75,-5.75) 15(3.25,-5.75) 16(3.75,-5.75) 33(3.75,5.75) 34(3.25,5.75) 35(2.75,5.75) 36(2.25,5.75) 37(1.75,5.75) 38(1.25,5.75) 39(0.75,5.75) 40(0.25,5.75) 41(-0.25,5.75) 42(-0.75,5.75) 43(-1.25,5.75) 44(-1.75,5.75) 45(-2.25,5.75) 46(-2.75,5.75) 47(-3.25,5.75) 48(-3.75,5.75)
  rect 1.2x0.3 smd: 17(5.75,-3.75) 18(5.75,-3.25) 19(5.75,-2.75) 20(5.75,-2.25) 21(5.75,-1.75) 22(5.75,-1.25) 23(5.75,-0.75) 24(5.75,-0.25) 25(5.75,0.25) 26(5.75,0.75) 27(5.75,1.25) 28(5.75,1.75) 29(5.75,2.25) 30(5.75,2.75) 31(5.75,3.25) 32(5.75,3.75) 49(-5.75,3.75) 50(-5.75,3.25) 51(-5.75,2.75) 52(-5.75,2.25) 53(-5.75,1.75) 54(-5.75,1.25) 55(-5.75,0.75) 56(-5.75,0.25) 57(-5.75,-0.25) 58(-5.75,-0.75) 59(-5.75,-1.25) 60(-5.75,-1.75) 61(-5.75,-2.25) 62(-5.75,-2.75) 63(-5.75,-3.25) 64(-5.75,-3.75)
Top Overlay:
  circle w0.3: c-4.6,-5.75 r0.1
  lines w0.1: -4.75,-4 -4.75,4 -4,4.75 4,4.75 4.75,4 4.75,-4 4,-4.75 -4,-4.75 -4.75,-4
3D body: height 0.9, standoff 0, extent 3.615,-5.5 3.885,-5.3
3D body: height 0.9, standoff 0.7, extent 3.615,-5.3 3.885,-5
3D body: height 0.2, standoff 0, extent 3.615,-6.1 3.885,-5.5
3D body: height 0.2, standoff 0, extent 3.115,-6.1 3.385,-5.5
3D body: height 0.9, standoff 0.7, extent 3.115,-5.3 3.385,-5
3D body: height 0.9, standoff 0, extent 3.115,-5.5 3.385,-5.3
3D body: height 0.2, standoff 0, extent 2.615,-6.1 2.885,-5.5
3D body: height 0.9, standoff 0.7, extent 2.615,-5.3 2.885,-5
3D body: height 0.9, standoff 0, extent 2.615,-5.5 2.885,-5.3
3D body: height 0.2, standoff 0, extent 2.115,-6.1 2.385,-5.5
3D body: height 0.9, standoff 0.7, extent 2.115,-5.3 2.385,-5
3D body: height 0.9, standoff 0, extent 2.115,-5.5 2.385,-5.3
3D body: height 0.2, standoff 0, extent 1.615,-6.1 1.885,-5.5
3D body: height 0.9, standoff 0.7, extent 1.615,-5.3 1.885,-5
3D body: height 0.9, standoff 0, extent 1.615,-5.5 1.885,-5.3
3D body: height 0.2, standoff 0, extent 1.115,-6.1 1.385,-5.5
3D body: height 0.9, standoff 0.7, extent 1.115,-5.3 1.385,-5
3D body: height 0.9, standoff 0, extent 1.115,-5.5 1.385,-5.3
3D body: height 0.2, standoff 0, extent 0.615,-6.1 0.885,-5.5
3D body: height 0.9, standoff 0.7, extent 0.615,-5.3 0.885,-5
3D body: height 0.9, standoff 0, extent 0.615,-5.5 0.885,-5.3
3D body: height 0.2, standoff 0, extent 0.115,-6.1 0.385,-5.5
3D body: height 0.9, standoff 0.7, extent 0.115,-5.3 0.385,-5
3D body: height 0.9, standoff 0, extent 0.115,-5.5 0.385,-5.3
3D body: height 0.2, standoff 0, extent -0.385,-6.1 -0.115,-5.5
3D body: height 0.9, standoff 0.7, extent -0.385,-5.3 -0.115,-5
3D body: height 0.9, standoff 0, extent -0.385,-5.5 -0.115,-5.3
3D body: height 0.2, standoff 0, extent -0.885,-6.1 -0.615,-5.5
3D body: height 0.9, standoff 0.7, extent -0.885,-5.3 -0.615,-5
3D body: height 0.9, standoff 0, extent -0.885,-5.5 -0.615,-5.3
3D body: height 0.2, standoff 0, extent -1.385,-6.1 -1.115,-5.5
3D body: height 0.9, standoff 0.7, extent -1.385,-5.3 -1.115,-5
3D body: height 0.9, standoff 0, extent -1.385,-5.5 -1.115,-5.3
3D body: height 0.2, standoff 0, extent -1.885,-6.1 -1.615,-5.5
3D body: height 0.9, standoff 0.7, extent -1.885,-5.3 -1.615,-5
3D body: height 0.9, standoff 0, extent -1.885,-5.5 -1.615,-5.3
3D body: height 0.2, standoff 0, extent -2.385,-6.1 -2.115,-5.5
3D body: height 0.9, standoff 0.7, extent -2.385,-5.3 -2.115,-5
3D body: height 0.9, standoff 0, extent -2.385,-5.5 -2.115,-5.3
3D body: height 0.2, standoff 0, extent -2.885,-6.1 -2.615,-5.5
3D body: height 0.9, standoff 0.7, extent -2.885,-5.3 -2.615,-5
3D body: height 0.9, standoff 0, extent -2.885,-5.5 -2.615,-5.3
3D body: height 0.2, standoff 0, extent -3.385,-6.1 -3.115,-5.5
3D body: height 0.9, standoff 0.7, extent -3.385,-5.3 -3.115,-5
3D body: height 0.9, standoff 0, extent -3.385,-5.5 -3.115,-5.3
3D body: height 0.2, standoff 0, extent -3.885,-6.1 -3.615,-5.5
3D body: height 0.9, standoff 0.7, extent -3.885,-5.3 -3.615,-5
3D body: height 0.9, standoff 0, extent -3.885,-5.5 -3.615,-5.3
3D body: height 0.9, standoff 0, extent -5.5,-3.885 -5.3,-3.615
3D body: height 0.9, standoff 0.7, extent -5.3,-3.885 -5,-3.615
3D body: height 0.2, standoff 0, extent -6.1,-3.885 -5.5,-3.615
3D body: height 0.2, standoff 0, extent -6.1,-3.385 -5.5,-3.115
3D body: height 0.9, standoff 0.7, extent -5.3,-3.385 -5,-3.115
3D body: height 0.9, standoff 0, extent -5.5,-3.385 -5.3,-3.115
3D body: height 0.2, standoff 0, extent -6.1,-2.885 -5.5,-2.615
3D body: height 0.9, standoff 0.7, extent -5.3,-2.885 -5,-2.615
3D body: height 0.9, standoff 0, extent -5.5,-2.885 -5.3,-2.615
3D body: height 0.2, standoff 0, extent -6.1,-2.385 -5.5,-2.115
3D body: height 0.9, standoff 0.7, extent -5.3,-2.385 -5,-2.115
3D body: height 0.9, standoff 0, extent -5.5,-2.385 -5.3,-2.115
3D body: height 0.2, standoff 0, extent -6.1,-1.885 -5.5,-1.615
3D body: height 0.9, standoff 0.7, extent -5.3,-1.885 -5,-1.615
3D body: height 0.9, standoff 0, extent -5.5,-1.885 -5.3,-1.615
3D body: height 0.2, standoff 0, extent -6.1,-1.385 -5.5,-1.115
3D body: height 0.9, standoff 0.7, extent -5.3,-1.385 -5,-1.115
3D body: height 0.9, standoff 0, extent -5.5,-1.385 -5.3,-1.115
3D body: height 0.2, standoff 0, extent -6.1,-0.885 -5.5,-0.615
3D body: height 0.9, standoff 0.7, extent -5.3,-0.885 -5,-0.615
3D body: height 0.9, standoff 0, extent -5.5,-0.885 -5.3,-0.615
3D body: height 0.2, standoff 0, extent -6.1,-0.385 -5.5,-0.115
3D body: height 0.9, standoff 0.7, extent -5.3,-0.385 -5,-0.115
3D body: height 0.9, standoff 0, extent -5.5,-0.385 -5.3,-0.115
3D body: height 0.2, standoff 0, extent -6.1,0.115 -5.5,0.385
3D body: height 0.9, standoff 0.7, extent -5.3,0.115 -5,0.385
3D body: height 0.9, standoff 0, extent -5.5,0.115 -5.3,0.385
3D body: height 0.2, standoff 0, extent -6.1,0.615 -5.5,0.885
3D body: height 0.9, standoff 0.7, extent -5.3,0.615 -5,0.885
3D body: height 0.9, standoff 0, extent -5.5,0.615 -5.3,0.885
3D body: height 0.2, standoff 0, extent -6.1,1.115 -5.5,1.385
3D body: height 0.9, standoff 0.7, extent -5.3,1.115 -5,1.385
3D body: height 0.9, standoff 0, extent -5.5,1.115 -5.3,1.385
3D body: height 0.2, standoff 0, extent -6.1,1.615 -5.5,1.885
3D body: height 0.9, standoff 0.7, extent -5.3,1.615 -5,1.885
3D body: height 0.9, standoff 0, extent -5.5,1.615 -5.3,1.885
3D body: height 0.2, standoff 0, extent -6.1,2.115 -5.5,2.385
3D body: height 0.9, standoff 0.7, extent -5.3,2.115 -5,2.385
3D body: height 0.9, standoff 0, extent -5.5,2.115 -5.3,2.385
3D body: height 0.2, standoff 0, extent -6.1,2.615 -5.5,2.885
3D body: height 0.9, standoff 0.7, extent -5.3,2.615 -5,2.885
3D body: height 0.9, standoff 0, extent -5.5,2.615 -5.3,2.885
3D body: height 0.2, standoff 0, extent -6.1,3.115 -5.5,3.385
3D body: height 0.9, standoff 0.7, extent -5.3,3.115 -5,3.385
3D body: height 0.9, standoff 0, extent -5.5,3.115 -5.3,3.385
3D body: height 0.2, standoff 0, extent -6.1,3.615 -5.5,3.885
3D body: height 0.9, standoff 0.7, extent -5.3,3.615 -5,3.885
3D body: height 0.9, standoff 0, extent -5.5,3.615 -5.3,3.885
3D body: height 0.9, standoff 0, extent -3.885,5.3 -3.615,5.5
3D body: height 0.9, standoff 0.7, extent -3.885,5 -3.615,5.3
3D body: height 0.2, standoff 0, extent -3.885,5.5 -3.615,6.1
3D body: height 0.2, standoff 0, extent -3.385,5.5 -3.115,6.1
3D body: height 0.9, standoff 0.7, extent -3.385,5 -3.115,5.3
3D body: height 0.9, standoff 0, extent -3.385,5.3 -3.115,5.5
3D body: height 0.2, standoff 0, extent -2.885,5.5 -2.615,6.1
3D body: height 0.9, standoff 0.7, extent -2.885,5 -2.615,5.3
3D body: height 0.9, standoff 0, extent -2.885,5.3 -2.615,5.5
3D body: height 0.2, standoff 0, extent -2.385,5.5 -2.115,6.1
3D body: height 0.9, standoff 0.7, extent -2.385,5 -2.115,5.3
3D body: height 0.9, standoff 0, extent -2.385,5.3 -2.115,5.5
3D body: height 0.2, standoff 0, extent -1.885,5.5 -1.615,6.1
3D body: height 0.9, standoff 0.7, extent -1.885,5 -1.615,5.3
3D body: height 0.9, standoff 0, extent -1.885,5.3 -1.615,5.5
3D body: height 0.2, standoff 0, extent -1.385,5.5 -1.115,6.1
3D body: height 0.9, standoff 0.7, extent -1.385,5 -1.115,5.3
3D body: height 0.9, standoff 0, extent -1.385,5.3 -1.115,5.5
3D body: height 0.2, standoff 0, extent -0.885,5.5 -0.615,6.1
3D body: height 0.9, standoff 0.7, extent -0.885,5 -0.615,5.3
3D body: height 0.9, standoff 0, extent -0.885,5.3 -0.615,5.5
3D body: height 0.2, standoff 0, extent -0.385,5.5 -0.115,6.1
3D body: height 0.9, standoff 0.7, extent -0.385,5 -0.115,5.3
3D body: height 0.9, standoff 0, extent -0.385,5.3 -0.115,5.5
3D body: height 0.2, standoff 0, extent 0.115,5.5 0.385,6.1
3D body: height 0.9, standoff 0.7, extent 0.115,5 0.385,5.3
3D body: height 0.9, standoff 0, extent 0.115,5.3 0.385,5.5
3D body: height 0.2, standoff 0, extent 0.615,5.5 0.885,6.1
3D body: height 0.9, standoff 0.7, extent 0.615,5 0.885,5.3
3D body: height 0.9, standoff 0, extent 0.615,5.3 0.885,5.5
3D body: height 0.2, standoff 0, extent 1.115,5.5 1.385,6.1
3D body: height 0.9, standoff 0.7, extent 1.115,5 1.385,5.3
3D body: height 0.9, standoff 0, extent 1.115,5.3 1.385,5.5
3D body: height 0.2, standoff 0, extent 1.615,5.5 1.885,6.1
3D body: height 0.9, standoff 0.7, extent 1.615,5 1.885,5.3
3D body: height 0.9, standoff 0, extent 1.615,5.3 1.885,5.5
3D body: height 0.2, standoff 0, extent 2.115,5.5 2.385,6.1
3D body: height 0.9, standoff 0.7, extent 2.115,5 2.385,5.3
3D body: height 0.9, standoff 0, extent 2.115,5.3 2.385,5.5
3D body: height 0.2, standoff 0, extent 2.615,5.5 2.885,6.1
3D body: height 0.9, standoff 0.7, extent 2.615,5 2.885,5.3
3D body: height 0.9, standoff 0, extent 2.615,5.3 2.885,5.5
3D body: height 0.2, standoff 0, extent 3.115,5.5 3.385,6.1
3D body: height 0.9, standoff 0.7, extent 3.115,5 3.385,5.3
3D body: height 0.9, standoff 0, extent 3.115,5.3 3.385,5.5
3D body: height 0.2, standoff 0, extent 3.615,5.5 3.885,6.1
3D body: height 0.9, standoff 0.7, extent 3.615,5 3.885,5.3
3D body: height 0.9, standoff 0, extent 3.615,5.3 3.885,5.5
3D body: height 0.9, standoff 0, extent 5.3,-3.885 5.5,-3.615
3D body: height 0.9, standoff 0.7, extent 5,-3.885 5.3,-3.615
3D body: height 0.2, standoff 0, extent 5.5,-3.885 6.1,-3.615
3D body: height 0.9, standoff 0, extent 5.3,-3.385 5.5,-3.115
3D body: height 0.9, standoff 0.7, extent 5,-3.385 5.3,-3.115
3D body: height 0.2, standoff 0, extent 5.5,-3.385 6.1,-3.115
3D body: height 0.9, standoff 0, extent 5.3,-2.885 5.5,-2.615
3D body: height 0.9, standoff 0.7, extent 5,-2.885 5.3,-2.615
3D body: height 0.2, standoff 0, extent 5.5,-2.885 6.1,-2.615
3D body: height 0.9, standoff 0, extent 5.3,-2.385 5.5,-2.115
3D body: height 0.9, standoff 0.7, extent 5,-2.385 5.3,-2.115
3D body: height 0.2, standoff 0, extent 5.5,-2.385 6.1,-2.115
3D body: height 0.9, standoff 0, extent 5.3,-1.885 5.5,-1.615
3D body: height 0.9, standoff 0.7, extent 5,-1.885 5.3,-1.615
3D body: height 0.2, standoff 0, extent 5.5,-1.885 6.1,-1.615
3D body: height 0.9, standoff 0, extent 5.3,-1.385 5.5,-1.115
3D body: height 0.9, standoff 0.7, extent 5,-1.385 5.3,-1.115
3D body: height 0.2, standoff 0, extent 5.5,-1.385 6.1,-1.115
3D body: height 0.9, standoff 0, extent 5.3,-0.885 5.5,-0.615
3D body: height 0.9, standoff 0.7, extent 5,-0.885 5.3,-0.615
3D body: height 0.2, standoff 0, extent 5.5,-0.885 6.1,-0.615
3D body: height 0.9, standoff 0, extent 5.3,-0.385 5.5,-0.115
3D body: height 0.9, standoff 0.7, extent 5,-0.385 5.3,-0.115
3D body: height 0.2, standoff 0, extent 5.5,-0.385 6.1,-0.115
3D body: height 0.9, standoff 0, extent 5.3,0.115 5.5,0.385
3D body: height 0.9, standoff 0.7, extent 5,0.115 5.3,0.385
3D body: height 0.2, standoff 0, extent 5.5,0.115 6.1,0.385
3D body: height 0.9, standoff 0, extent 5.3,0.615 5.5,0.885
3D body: height 0.9, standoff 0.7, extent 5,0.615 5.3,0.885
3D body: height 0.2, standoff 0, extent 5.5,0.615 6.1,0.885
3D body: height 0.9, standoff 0, extent 5.3,1.115 5.5,1.385
3D body: height 0.9, standoff 0.7, extent 5,1.115 5.3,1.385
3D body: height 0.2, standoff 0, extent 5.5,1.115 6.1,1.385
3D body: height 0.9, standoff 0, extent 5.3,1.615 5.5,1.885
3D body: height 0.9, standoff 0.7, extent 5,1.615 5.3,1.885
3D body: height 0.2, standoff 0, extent 5.5,1.615 6.1,1.885
3D body: height 0.9, standoff 0, extent 5.3,2.115 5.5,2.385
3D body: height 0.9, standoff 0.7, extent 5,2.115 5.3,2.385
3D body: height 0.2, standoff 0, extent 5.5,2.115 6.1,2.385
3D body: height 0.9, standoff 0, extent 5.3,2.615 5.5,2.885
3D body: height 0.9, standoff 0.7, extent 5,2.615 5.3,2.885
3D body: height 0.2, standoff 0, extent 5.5,2.615 6.1,2.885
3D body: height 0.9, standoff 0, extent 5.3,3.115 5.5,3.385
3D body: height 0.9, standoff 0.7, extent 5,3.115 5.3,3.385
3D body: height 0.2, standoff 0, extent 5.5,3.115 6.1,3.385
3D body: height 0.2, standoff 0, extent 5.5,3.615 6.1,3.885
3D body: height 0.9, standoff 0.7, extent 5,3.615 5.3,3.885
3D body: height 0.9, standoff 0, extent 5.3,3.615 5.5,3.885
3D body: height 1.6, standoff 0.15, extent -5,-5 5,5

## LQFP-128 [mm]
pads (128):
  rect 0.2x1 smd: 1(-6.2,-8) 2(-5.8,-8) 3(-5.4,-8) 4(-5,-8) 5(-4.6,-8) 6(-4.2,-8) 7(-3.8,-8) 8(-3.4,-8) 9(-3,-8) 10(-2.6,-8) 11(-2.2,-8) 12(-1.8,-8) 13(-1.4,-8) 14(-1,-8) 15(-0.6,-8) 16(-0.2,-8) 17(0.2,-8) 18(0.6,-8) 19(1,-8) 20(1.4,-8) 21(1.8,-8) 22(2.2,-8) 23(2.6,-8) 24(3,-8) 25(3.4,-8) 26(3.8,-8) 27(4.2,-8) 28(4.6,-8) 29(5,-8) 30(5.4,-8) 31(5.8,-8) 32(6.2,-8) 65(6.2,8) 66(5.8,8) 67(5.4,8) 68(5,8) 69(4.6,8) 70(4.2,8) 71(3.8,8) 72(3.4,8) 73(3,8) 74(2.6,8) 75(2.2,8) 76(1.8,8) 77(1.4,8) 78(1,8) 79(0.6,8) 80(0.2,8) 81(-0.2,8) 82(-0.6,8) 83(-1,8) 84(-1.4,8) 85(-1.8,8) 86(-2.2,8) 87(-2.6,8) 88(-3,8) 89(-3.4,8) 90(-3.8,8) 91(-4.2,8) 92(-4.6,8) 93(-5,8) 94(-5.4,8) 95(-5.8,8) 96(-6.2,8)
  rect 1x0.2 smd: 33(8,-6.2) 34(8,-5.8) 35(8,-5.4) 36(8,-5) 37(8,-4.6) 38(8,-4.2) 39(8,-3.8) 40(8,-3.4) 41(8,-3) 42(8,-2.6) 43(8,-2.2) 44(8,-1.8) 45(8,-1.4) 46(8,-1) 47(8,-0.6) 48(8,-0.2) 49(8,0.2) 50(8,0.6) 51(8,1) 52(8,1.4) 53(8,1.8) 54(8,2.2) 55(8,2.6) 56(8,3) 57(8,3.4) 58(8,3.8) 59(8,4.2) 60(8,4.6) 61(8,5) 62(8,5.4) 63(8,5.8) 64(8,6.2) 97(-8,6.2) 98(-8,5.8) 99(-8,5.4) 100(-8,5) 101(-8,4.6) 102(-8,4.2) 103(-8,3.8) 104(-8,3.4) 105(-8,3) 106(-8,2.6) 107(-8,2.2) 108(-8,1.8) 109(-8,1.4) 110(-8,1) 111(-8,0.6) 112(-8,0.2) 113(-8,-0.2) 114(-8,-0.6) 115(-8,-1) 116(-8,-1.4) 117(-8,-1.8) 118(-8,-2.2) 119(-8,-2.6) 120(-8,-3) 121(-8,-3.4) 122(-8,-3.8) 123(-8,-4.2) 124(-8,-4.6) 125(-8,-5) 126(-8,-5.4) 127(-8,-5.8) 128(-8,-6.2)
Top Overlay:
  circle w0.254: c-6.9,-8 r0.1
  lines w0.254: -7,-6.2 -6.2,-7 6.7,-7 7,-6.7 7,6.7 6.7,7 -6.7,7 -7,6.7 -7,-6.2